# EAGLE library part BNO055_VERT_BREAKOUT (library scono)
Adafruit breakout for BNO055
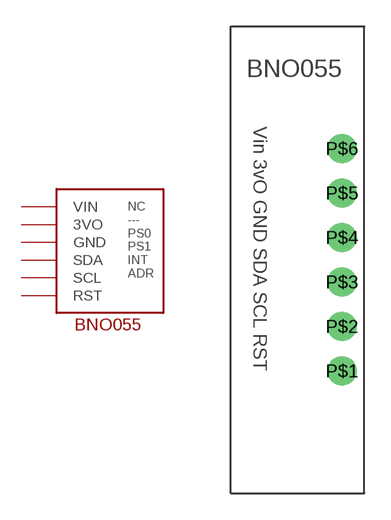
[diagram p16: symbol with the pads of BNO055_VERT_BREAKOUT; footprint BNO055_VERT_BREAKOUT]

Designator prefix -

## BNO055_VERT_BREAKOUT  [BNO055_VERT_BREAKOUT]
P$1  RST
P$2  SCL
P$3  SDA
P$4  GND
P$5  3VO
P$6  VIN

## Footprint BNO055_VERT_BREAKOUT (pad centres in mm)
Adafruit BNO055 IMU Mounted using right angle headers - only essential pins exposed.
drill 0.8 pad 1.676: P$1 0,0; P$2 0,2.54; P$3 0,5.08; P$4 0,7.62; P$5 0,10.16; P$6 0,12.7